# Altium footprint library OSC_X322516MLB4SI.PcbLib: 1 footprints
Each footprint in its own frame and in the unit in brackets; x right, y up, seen from the top. Pads: shape width x height; smd on the part's side, far side on the other; paste and mask are expansions set on the pad; w line width, h text height; cw(c..) or ccw(c..) is an arc to the next point about the centre after c.
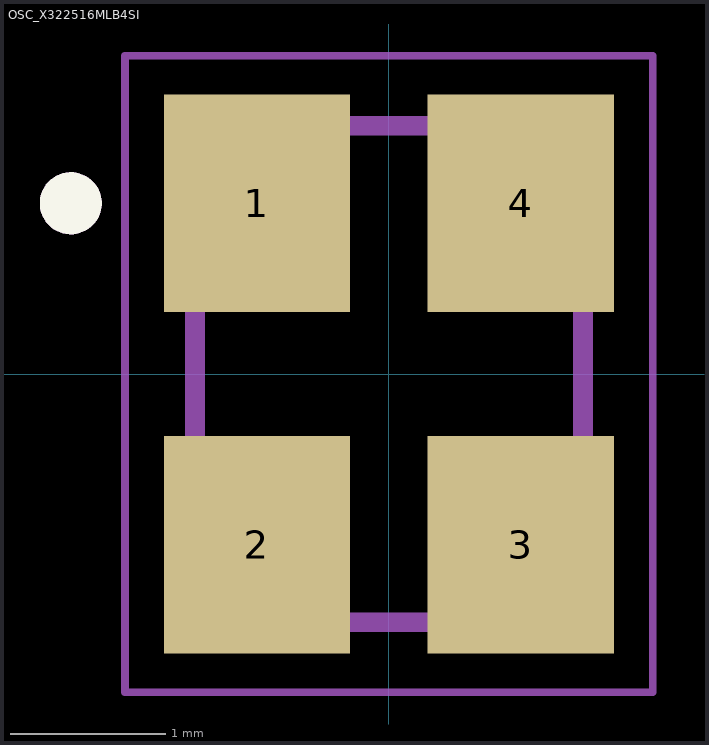
[diagram p0: the footprint, top view; thin cyan lines are the x and y axes]

## OSC_X322516MLB4SI [mm]
pads (4):
  rect 1.2x1.4 smd: 1(-0.85,1.1) 2(-0.85,-1.1) 3(0.85,-1.1) 4(0.85,1.1)
Top Overlay:
  circle w0.2: c-2.05,1.1 r0.1
Mechanical 13:
  circle w0.2: c-2.05,1.1 r0.1
  lines w0.127: -1.25,-1.6 1.25,-1.6 1.25,1.6 -1.25,1.6 -1.25,-1.6
Mechanical 15:
  lines w0.05: -1.7,-2.05 1.7,-2.05 1.7,2.05 -1.7,2.05 -1.7,-2.05